# Altium schematic symbol library SchematicComponents.SchLib: 20 symbols
Pins are listed as number, name and electrical type; pins without a type are passive.

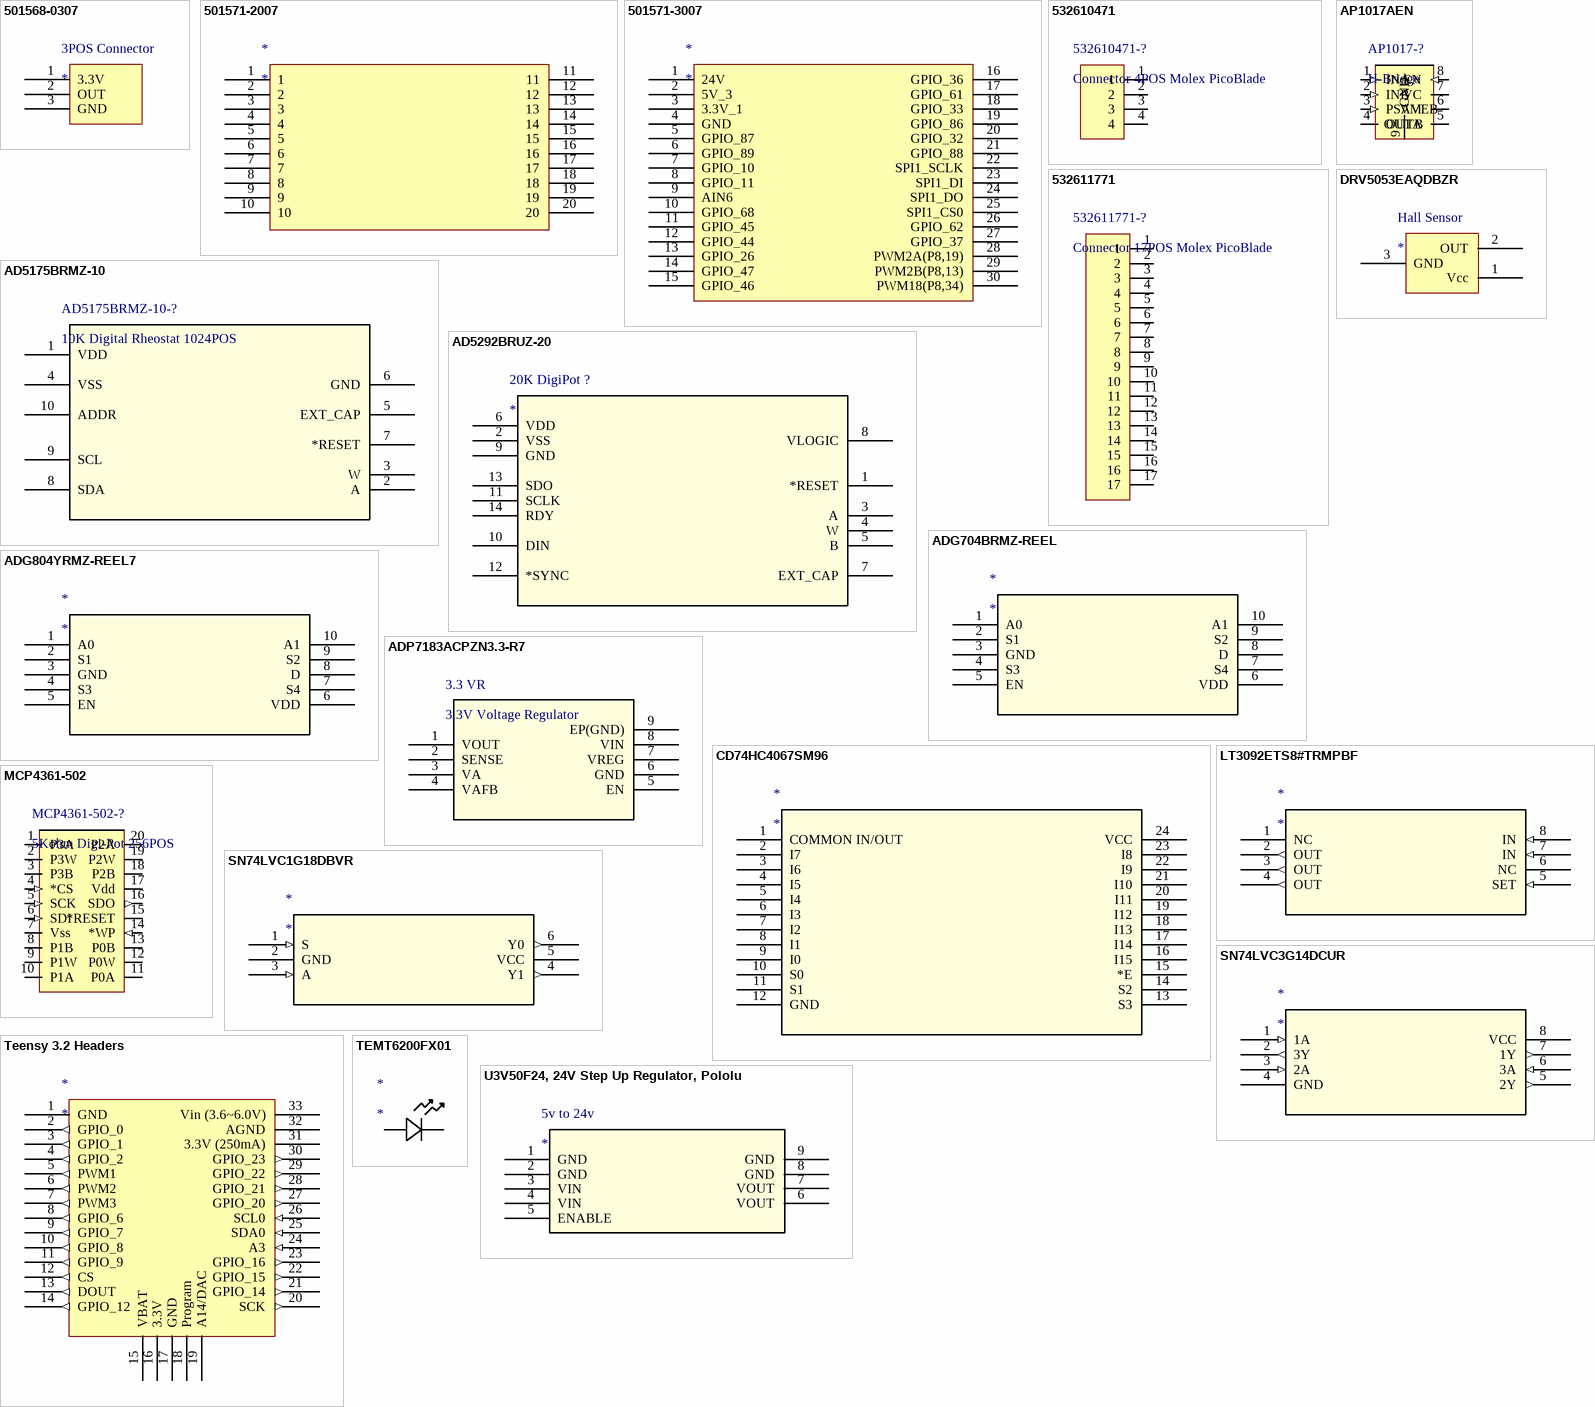
[diagram p0: symbols 501568-0307 to U3V50F24, 24V Step Up Regulator, Pololu]

## 501568-0307
designator 3POS Connector
CONN HEADER 1MM 3POS
footprint 5015680307
pins: 1 3.3V (power), 2 OUT, 3 GND (power)

## 501571-2007
designator *
Pico-Clasp 1.0mm 20POS
footprint 501571-2007 20Pos Conn (Pico-Clasp 1.0mm 20Pos)
pins: 1, 2, 3, 4, 5, 6 "from 12V supply", 7 "from 12V supply", 8, 9, 10 "from GOM Space EPU", 11 "from GOM Space EPU", 12 "Battery Voltage from GOM Space EPU", 13 "Battery Voltage from GOM Space EPU", 14, 15, 16 "from STM", 17, 18, 19, 20

## 501571-3007
designator *
ADCS2Umb
footprint Docking_Molex_30Pin (501571-3007)
pins: 1 24V, 2 5V_3, 3 3.3V_1, 4 GND, 5 GPIO_87, 6 GPIO_89 "from 12V supply", 7 GPIO_10 "from 12V supply", 8 GPIO_11, 9 AIN6, 10 GPIO_68 "from GOM Space EPU", 11 GPIO_45 "from GOM Space EPU", 12 GPIO_44 "from GOM Space EPU", 13 GPIO_26, 14 GPIO_47 "from GOM Space EPU", 15 GPIO_46 "from GOM Space EPU", 16 GPIO_36 "from GOM Space EPU", 17 GPIO_61 "Battery Voltage from GOM Space EPU", 18 GPIO_33 "Battery Voltage from GOM Space EPU", 19 GPIO_86, 20 GPIO_32, 21 GPIO_88 "from STM", 22 SPI1_SCLK, 23 SPI1_DI, 24 SPI1_DO, 25 SPI1_CS0, 26 GPIO_62, 27 GPIO_37, 28 PWM2A(P8,19), 29 PWM2B(P8,13), 30 PWM18(P8,34)

## 532610471
designator 532610471-?, comment Connector 4POS Molex PicoBlade
footprint 532610471 (Connector 4POS Molex PicoBlade)
pins: 1, 2, 3, 4

## 532611771
designator 532611771-?, comment Connector 17POS Molex PicoBlade
footprint 532611771
pins: 1, 2, 3, 4, 5, 6, 7, 8, 9, 10, 11, 12, 13, 14, 15, 16, 17

## AD5175BRMZ-10
designator AD5175BRMZ-10-?, comment 10K Digital Rheostat 1024POS
10K Digital Rheostat 1024POS Single Channel I2C
footprint AD5175BRMZ-10 (10K Digital Rheostat 1024POS Single Channel I2C)
pins: 1 VDD, 2 A, 3 W, 4 VSS, 5 EXT_CAP, 6 GND, 7 *RESET, 8 SDA, 9 SCL, 10 ADDR

## AD5292BRUZ-20
designator 20K DigiPot ?
20K DigiPot 1024POS
footprint AD5292BRUZ-20
pins: 1 *RESET, 2 VSS, 3 A, 4 W, 5 B, 6 VDD, 7 EXT_CAP, 8 VLOGIC, 9 GND, 10 DIN, 11 SCLK, 12 *SYNC, 13 SDO, 14 RDY

## ADG704BRMZ-REEL
designator *
footprint ADG704BRMZ-REEL (Mux 4:1)
pins: 1 A0, 2 S1, 3 GND, 4 S3, 5 EN, 6 VDD (power), 7 S4, 8 D, 9 S2, 10 A1

## ADG804YRMZ-REEL7
designator *
footprint ADG804YRMZ-REEL7 (4:1 mUX)
pins: 1 A0, 2 S1, 3 GND, 4 S3, 5 EN, 6 VDD (power), 7 S4, 8 D, 9 S2, 10 A1

## ADP7183ACPZN3.3-R7
designator 3.3 VR, comment 3.3V Voltage Regulator
footprint ADP7183ACPZN3.3-R7 (3.3V Voltage Regulator)
pins: 1 VOUT, 2 SENSE, 3 VA, 4 VAFB, 5 EN, 6 GND, 7 VREG, 8 VIN, 9 EP(GND)

## AP1017AEN
designator AP1017-?, comment H-Bridge
footprint AP1017 (SON, 8-Leads, Body 2.00x2.00mm, Pitch 0.50mm, Thermal Pad 1.80x1.07mm, IPC Medium Density)
pins: 1 INA (in), 2 INB (in), 3 PSAVEB (in), 4 OUTB (power), 5 OUTA (power), 6 VM (power), 7 VC (power), 8 EN (in), 9 GND (power)

## CD74HC4067SM96
designator *
footprint CD74HC4067SM96 (16:1 Mux)
pins: 1 COMMON IN/OUT, 2 I7, 3 I6, 4 I5, 5 I4, 6 I3, 7 I2, 8 I1, 9 I0, 10 S0, 11 S1, 12 GND (power), 13 S3, 14 S2, 15 *E, 16 I15, 17 I14, 18 I13, 19 I12, 20 I11, 21 I10, 22 I9, 23 I8, 24 VCC (power)

## DRV5053EAQDBZR
designator Hall Sensor
Hall Sensor Linear SOT-23-3
footprint DRV5053EAQDBZR (Hall Sensor Linear SOT-23-3)
pins: 1 Vcc (power), 2 OUT, 3 GND (power)

## LT3092ETS8#TRMPBF
designator *
footprint LT3092ETS8#TRMPBF (IC Current Source 1%)
pins: 1 NC, 2 OUT (out), 3 OUT (out), 4 OUT (out), 5 SET (in), 6 NC, 7 IN (in), 8 IN (in)

## MCP4361-502
designator MCP4361-502-?, comment 5Kohm Digi-Pot 256POS
footprint MCP4361-502 (TSOP, 20-Leads, Body 6.50x4.40mm, Pitch 0.65mm, IPC Medium Density)
pins: 1 P3A (power), 2 P3W (power), 3 P3B (power), 4 *CS (in), 5 SCK (in), 6 SDI (in), 7 Vss (power), 8 P1B (power), 9 P1W (power), 10 P1A (power), 11 P0A (power), 12 P0W (power), 13 P0B (power), 14 *WP (in), 15 *RESET (power), 16 SDO (out), 17 Vdd (power), 18 P2B (power), 19 P2W (power), 20 P2A (power)

## SN74LVC1G18DBVR
designator *
footprint SN74LVC1G18DBVR
pins: 1 S (in), 2 GND (power), 3 A (in), 4 Y1 (out), 5 VCC (power), 6 Y0 (out)

## SN74LVC3G14DCUR
designator *
footprint SN74LVC3G14DCUR (IC INVERTER TRPL S-T US8)
pins: 1 1A (in), 2 3Y (out), 3 2A (in), 4 GND (power), 5 2Y (out), 6 3A (in), 7 1Y (out), 8 VCC (power)

## Teensy 3.2 Headers
designator *
footprint Teensy 3.2 SMD Headers
footprint Teensy 3.2 Standard Headers
pins: 1 GND (power), 2 GPIO_0 (out), 3 GPIO_1 (out), 4 GPIO_2 (out), 5 PWM1 (out), 6 PWM2 (out), 7 PWM3 (out), 8 GPIO_6 (out), 9 GPIO_7 (out), 10 GPIO_8 (out), 11 GPIO_9 (out), 12 CS (out), 13 DOUT (out), 14 GPIO_12 (out), 15 VBAT, 16 3.3V (power), 17 GND (power), 18 Program, 19 A14/DAC, 20 SCK (out), 21 GPIO_14 (out), 22 GPIO_15 (out), 23 GPIO_16 (out), 24 A3 (in), 25 SDA0 (in), 26 SCL0 (in), 27 GPIO_20 (out), 28 GPIO_21 (out), 29 GPIO_22 (out), 30 GPIO_23 (out), 31 3.3V (250mA) (power), 32 AGND (power), 33 Vin (3.6~6.0V) (power)

## TEMT6200FX01
designator *
footprint Phototransistor
pins: 1, 2

## U3V50F24, 24V Step Up Regulator, Pololu
designator 5v to 24v
4V Step Up Regulator
footprint U3V50F24
pins: 1 GND (power), 2 GND (power), 3 VIN (power), 4 VIN (power), 5 ENABLE, 6 VOUT (power), 7 VOUT (power), 8 GND (power), 9 GND (power)